# Altium integrated library Microchip Microcontroller 8-Bit PIC18.IntLib: 1070 symbols (part 6 of 43)
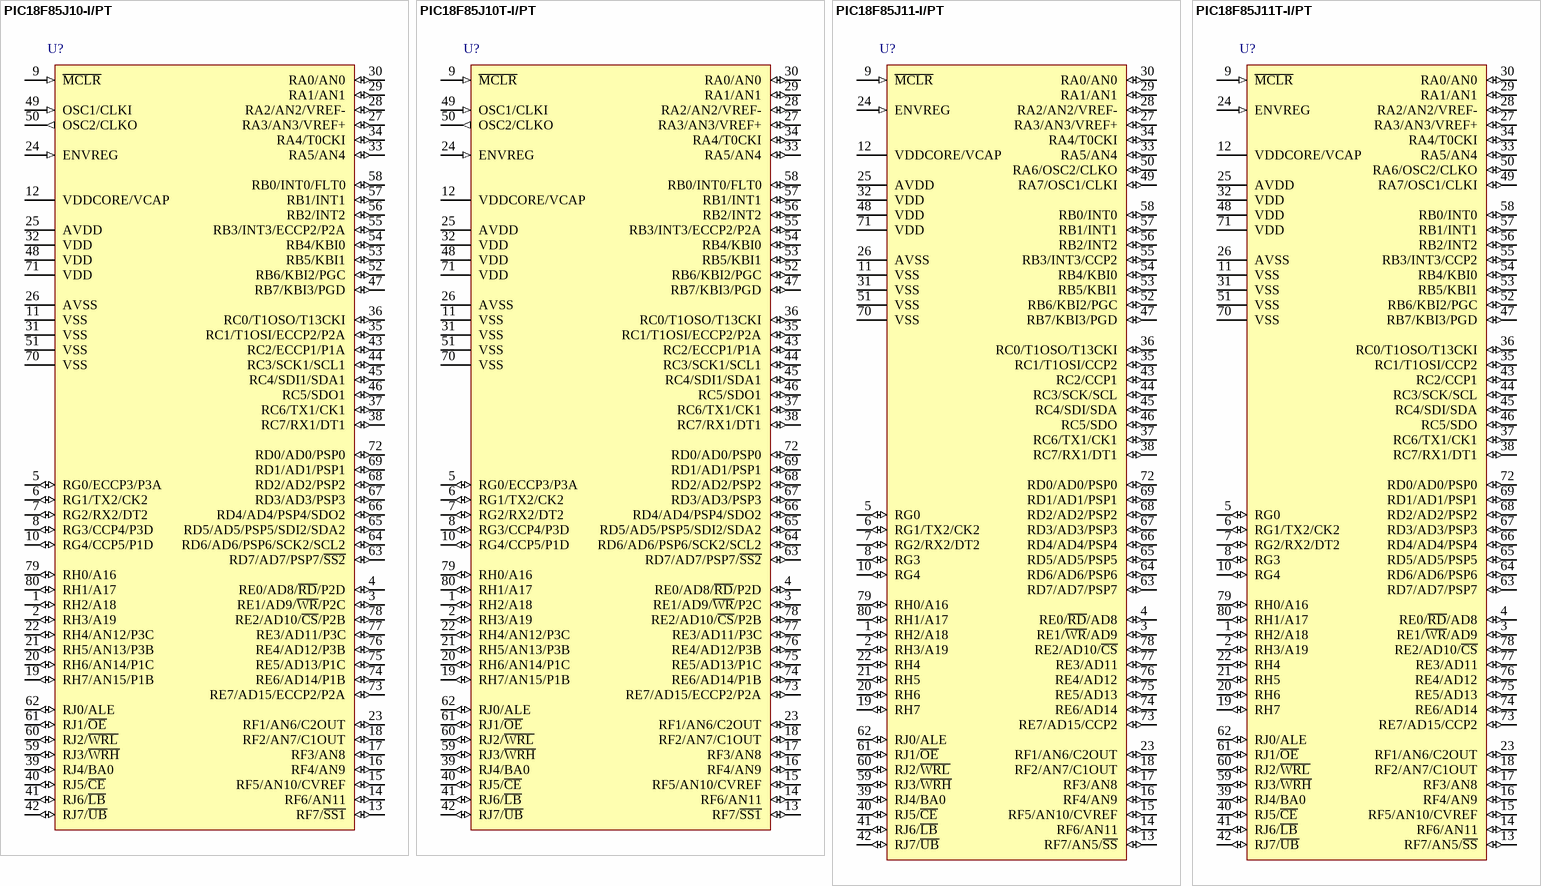
[diagram p129: symbols PIC18F85J10-I/PT to PIC18F85J11T-I/PT]

## PIC18F85J10T-I/PT
designator U?
High Performance, 1-Mbit Flash Microcontroller with nanoWatt Technology, 32K Flash, 80-Pin TQFP, Industrial Temperature Range, Tape and Reel; Published: 29-Jan-2009; DatasheetVersion: revD, Jun-2006; PackageVersion: revAW, Oct-2008; PackageReference: TQFP-PT80; Publisher: Altium Limited; PackageDescription: 80-Lead Thin Plastic Quad Flat Pack (PT) - 12x12x1mm Body, 2.00mm [TQFP]; Code_JEDEC: MS-026; ComponentLink1Description: Manufacturer Link; ComponentLink1URL: http://www.microchip.com; ComponentLink2Description: Datasheet; ComponentLink2URL: http://ww1.microchip.com/downloads/en/DeviceDoc/39663d.pdf; ComponentLink3Description: Packaging Specification; ComponentLink3URL: http://ww1.microchip.com/downloads/en/PackagingSpec/00049AW.pdf
footprint TQFP-PT80_N (Thin QFP, 80-Leads, Body 12x12mm, Pitch 0.5mm, IPC Medium Density)
footprint TQFP-PT80_L (Thin QFP, 80-Leads, Body 12x12mm, Pitch 0.5mm, IPC High Density)
footprint TQFP-PT80_M (Thin QFP, 80-Leads, Body 12x12mm, Pitch 0.5mm, IPC Low Density)
pins: 1 RH2/A18 (io), 2 RH3/A19 (io), 3 RE1/AD9/~{WR}/P2C (io), 4 RE0/AD8/~{RD}/P2D (io), 5 RG0/ECCP3/P3A (io), 6 RG1/TX2/CK2 (io), 7 RG2/RX2/DT2 (io), 8 RG3/CCP4/P3D (io), 9 ~{MCLR} (in), 10 RG4/CCP5/P1D (io), 11 VSS (power), 12 VDDCORE/VCAP (power), 13 RF7/~{SS1} (io), 14 RF6/AN11 (io), 15 RF5/AN10/CVREF (io), 16 RF4/AN9 (io), 17 RF3/AN8 (io), 18 RF2/AN7/C1OUT (io), 19 RH7/AN15/P1B (io), 20 RH6/AN14/P1C (io), 21 RH5/AN13/P3B (io), 22 RH4/AN12/P3C (io), 23 RF1/AN6/C2OUT (io), 24 ENVREG (in), 25 AVDD (power), 26 AVSS (power), 27 RA3/AN3/VREF+ (io), 28 RA2/AN2/VREF- (io), 29 RA1/AN1 (io), 30 RA0/AN0 (io), 31 VSS (power), 32 VDD (power), 33 RA5/AN4 (io), 34 RA4/T0CKI (io), 35 RC1/T1OSI/ECCP2/P2A (io), 36 RC0/T1OSO/T13CKI (io), 37 RC6/TX1/CK1 (io), 38 RC7/RX1/DT1 (io), 39 RJ4/BA0 (io), 40 RJ5/~{CE} (io), 41 RJ6/~{LB} (io), 42 RJ7/~{UB} (io), 43 RC2/ECCP1/P1A (io), 44 RC3/SCK1/SCL1 (io), 45 RC4/SDI1/SDA1 (io), 46 RC5/SDO1 (io), 47 RB7/KBI3/PGD (io), 48 VDD (power), 49 OSC1/CLKI (in), 50 OSC2/CLKO (out), 51 VSS (power), 52 RB6/KBI2/PGC (io), 53 RB5/KBI1 (io), 54 RB4/KBI0 (io), 55 RB3/INT3/ECCP2/P2A (io), 56 RB2/INT2 (io), 57 RB1/INT1 (io), 58 RB0/INT0/FLT0 (io), 59 RJ3/~{WRH} (io), 60 RJ2/~{WRL} (io), 61 RJ1/~{OE} (io), 62 RJ0/ALE (io), 63 RD7/AD7/PSP7/~{SS2} (io), 64 RD6/AD6/PSP6/SCK2/SCL2 (io), 65 RD5/AD5/PSP5/SDI2/SDA2 (io), 66 RD4/AD4/PSP4/SDO2 (io), 67 RD3/AD3/PSP3 (io), 68 RD2/AD2/PSP2 (io), 69 RD1/AD1/PSP1 (io), 70 VSS (power), 71 VDD (power), 72 RD0/AD0/PSP0 (io), 73 RE7/AD15/ECCP2/P2A (io), 74 RE6/AD14/P1B (io), 75 RE5/AD13/P1C (io), 76 RE4/AD12/P3B (io), 77 RE3/AD11/P3C (io), 78 RE2/AD10/~{CS}/P2B (io), 79 RH0/A16 (io), 80 RH1/A17 (io)

## PIC18F85J11-I/PT
designator U?
High Performance Microcontroller with nanoWatt Technology, 32K Flash, 80-Pin TQFP, Industrial Temperature Range; Published: 29-Jan-2009; DatasheetVersion: revC, Apr-2007; PackageVersion: revAW, Oct-2008; PackageReference: TQFP-PT80; Publisher: Altium Limited; PackageDescription: 80-Lead Thin Plastic Quad Flat Pack (PT) - 12x12x1mm Body, 2.00mm [TQFP]; Code_JEDEC: MS-026; ComponentLink1Description: Manufacturer Link; ComponentLink1URL: http://www.microchip.com; ComponentLink2Description: Datasheet; ComponentLink2URL: http://ww1.microchip.com/downloads/en/DeviceDoc/39774c.pdf; ComponentLink3Description: Packaging Specification; ComponentLink3URL: http://ww1.microchip.com/downloads/en/PackagingSpec/00049AW.pdf
footprint TQFP-PT80_N (Thin QFP, 80-Leads, Body 12x12mm, Pitch 0.5mm, IPC Medium Density)
footprint TQFP-PT80_L (Thin QFP, 80-Leads, Body 12x12mm, Pitch 0.5mm, IPC High Density)
footprint TQFP-PT80_M (Thin QFP, 80-Leads, Body 12x12mm, Pitch 0.5mm, IPC Low Density)
pins: 1 RH2/A18 (io), 2 RH3/A19 (io), 3 RE1/~{WR}/AD9 (io), 4 RE0/~{RD}/AD8 (io), 5 RG0 (io), 6 RG1/TX2/CK2 (io), 7 RG2/RX2/DT2 (io), 8 RG3 (io), 9 ~{MCLR} (in), 10 RG4 (io), 11 VSS (power), 12 VDDCORE/VCAP (power), 13 RF7/AN5/~{SS} (io), 14 RF6/AN11 (io), 15 RF5/AN10/CVREF (io), 16 RF4/AN9 (io), 17 RF3/AN8 (io), 18 RF2/AN7/C1OUT (io), 19 RH7 (io), 20 RH6 (io), 21 RH5 (io), 22 RH4 (io), 23 RF1/AN6/C2OUT (io), 24 ENVREG (in), 25 AVDD (power), 26 AVSS (power), 27 RA3/AN3/VREF+ (io), 28 RA2/AN2/VREF- (io), 29 RA1/AN1 (io), 30 RA0/AN0 (io), 31 VSS (power), 32 VDD (power), 33 RA5/AN4 (io), 34 RA4/T0CKI (io), 35 RC1/T1OSI/CCP2 (io), 36 RC0/T1OSO/T13CKI (io), 37 RC6/TX1/CK1 (io), 38 RC7/RX1/DT1 (io), 39 RJ4/BA0 (io), 40 RJ5/~{CE} (io), 41 RJ6/~{LB} (io), 42 RJ7/~{UB} (io), 43 RC2/CCP1 (io), 44 RC3/SCK/SCL (io), 45 RC4/SDI/SDA (io), 46 RC5/SDO (io), 47 RB7/KBI3/PGD (io), 48 VDD (power), 49 RA7/OSC1/CLKI (io), 50 RA6/OSC2/CLKO (io), 51 VSS (power), 52 RB6/KBI2/PGC (io), 53 RB5/KBI1 (io), 54 RB4/KBI0 (io), 55 RB3/INT3/CCP2 (io), 56 RB2/INT2 (io), 57 RB1/INT1 (io), 58 RB0/INT0 (io), 59 RJ3/~{WRH} (io), 60 RJ2/~{WRL} (io), 61 RJ1/~{OE} (io), 62 RJ0/ALE (io), 63 RD7/AD7/PSP7 (io), 64 RD6/AD6/PSP6 (io), 65 RD5/AD5/PSP5 (io), 66 RD4/AD4/PSP4 (io), 67 RD3/AD3/PSP3 (io), 68 RD2/AD2/PSP2 (io), 69 RD1/AD1/PSP1 (io), 70 VSS (power), 71 VDD (power), 72 RD0/AD0/PSP0 (io), 73 RE7/AD15/CCP2 (io), 74 RE6/AD14 (io), 75 RE5/AD13 (io), 76 RE4/AD12 (io), 77 RE3/AD11 (io), 78 RE2/AD10/~{CS} (io), 79 RH0/A16 (io), 80 RH1/A17 (io)

## PIC18F85J11T-I/PT
designator U?
High Performance Microcontroller with nanoWatt Technology, 32K Flash, 80-Pin TQFP, Industrial Temperature Range, Tape and Reel; Published: 29-Jan-2009; DatasheetVersion: revC, Apr-2007; PackageVersion: revAW, Oct-2008; PackageReference: TQFP-PT80; Publisher: Altium Limited; PackageDescription: 80-Lead Thin Plastic Quad Flat Pack (PT) - 12x12x1mm Body, 2.00mm [TQFP]; Code_JEDEC: MS-026; ComponentLink1Description: Manufacturer Link; ComponentLink1URL: http://www.microchip.com; ComponentLink2Description: Datasheet; ComponentLink2URL: http://ww1.microchip.com/downloads/en/DeviceDoc/39774c.pdf; ComponentLink3Description: Packaging Specification; ComponentLink3URL: http://ww1.microchip.com/downloads/en/PackagingSpec/00049AW.pdf
footprint TQFP-PT80_N (Thin QFP, 80-Leads, Body 12x12mm, Pitch 0.5mm, IPC Medium Density)
footprint TQFP-PT80_L (Thin QFP, 80-Leads, Body 12x12mm, Pitch 0.5mm, IPC High Density)
footprint TQFP-PT80_M (Thin QFP, 80-Leads, Body 12x12mm, Pitch 0.5mm, IPC Low Density)
pins: 1 RH2/A18 (io), 2 RH3/A19 (io), 3 RE1/~{WR}/AD9 (io), 4 RE0/~{RD}/AD8 (io), 5 RG0 (io), 6 RG1/TX2/CK2 (io), 7 RG2/RX2/DT2 (io), 8 RG3 (io), 9 ~{MCLR} (in), 10 RG4 (io), 11 VSS (power), 12 VDDCORE/VCAP (power), 13 RF7/AN5/~{SS} (io), 14 RF6/AN11 (io), 15 RF5/AN10/CVREF (io), 16 RF4/AN9 (io), 17 RF3/AN8 (io), 18 RF2/AN7/C1OUT (io), 19 RH7 (io), 20 RH6 (io), 21 RH5 (io), 22 RH4 (io), 23 RF1/AN6/C2OUT (io), 24 ENVREG (in), 25 AVDD (power), 26 AVSS (power), 27 RA3/AN3/VREF+ (io), 28 RA2/AN2/VREF- (io), 29 RA1/AN1 (io), 30 RA0/AN0 (io), 31 VSS (power), 32 VDD (power), 33 RA5/AN4 (io), 34 RA4/T0CKI (io), 35 RC1/T1OSI/CCP2 (io), 36 RC0/T1OSO/T13CKI (io), 37 RC6/TX1/CK1 (io), 38 RC7/RX1/DT1 (io), 39 RJ4/BA0 (io), 40 RJ5/~{CE} (io), 41 RJ6/~{LB} (io), 42 RJ7/~{UB} (io), 43 RC2/CCP1 (io), 44 RC3/SCK/SCL (io), 45 RC4/SDI/SDA (io), 46 RC5/SDO (io), 47 RB7/KBI3/PGD (io), 48 VDD (power), 49 RA7/OSC1/CLKI (io), 50 RA6/OSC2/CLKO (io), 51 VSS (power), 52 RB6/KBI2/PGC (io), 53 RB5/KBI1 (io), 54 RB4/KBI0 (io), 55 RB3/INT3/CCP2 (io), 56 RB2/INT2 (io), 57 RB1/INT1 (io), 58 RB0/INT0 (io), 59 RJ3/~{WRH} (io), 60 RJ2/~{WRL} (io), 61 RJ1/~{OE} (io), 62 RJ0/ALE (io), 63 RD7/AD7/PSP7 (io), 64 RD6/AD6/PSP6 (io), 65 RD5/AD5/PSP5 (io), 66 RD4/AD4/PSP4 (io), 67 RD3/AD3/PSP3 (io), 68 RD2/AD2/PSP2 (io), 69 RD1/AD1/PSP1 (io), 70 VSS (power), 71 VDD (power), 72 RD0/AD0/PSP0 (io), 73 RE7/AD15/CCP2 (io), 74 RE6/AD14 (io), 75 RE5/AD13 (io), 76 RE4/AD12 (io), 77 RE3/AD11 (io), 78 RE2/AD10/~{CS} (io), 79 RH0/A16 (io), 80 RH1/A17 (io)

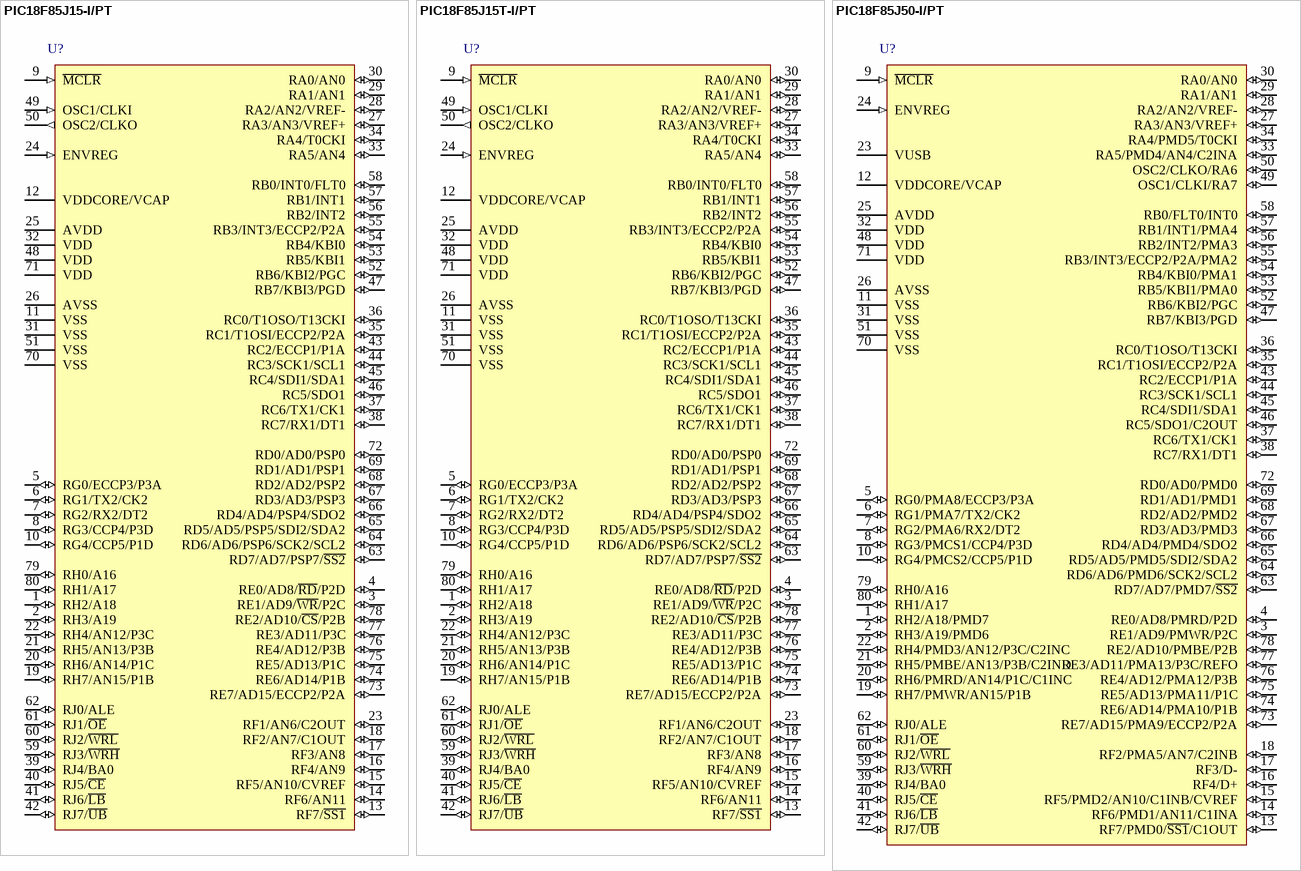
[diagram p16: symbols PIC18F85J15-I/PT to PIC18F85J50-I/PT]

## PIC18F85J15-I/PT
designator U?
High Performance, 1-Mbit Flash Microcontroller with nanoWatt Technology, 48K Flash, 80-Pin TQFP, Industrial Temperature Range; Published: 29-Jan-2009; DatasheetVersion: revD, Jun-2006; PackageVersion: revAW, Oct-2008; PackageReference: TQFP-PT80; Publisher: Altium Limited; PackageDescription: 80-Lead Thin Plastic Quad Flat Pack (PT) - 12x12x1mm Body, 2.00mm [TQFP]; Code_JEDEC: MS-026; ComponentLink1Description: Manufacturer Link; ComponentLink1URL: http://www.microchip.com; ComponentLink2Description: Datasheet; ComponentLink2URL: http://ww1.microchip.com/downloads/en/DeviceDoc/39663d.pdf; ComponentLink3Description: Packaging Specification; ComponentLink3URL: http://ww1.microchip.com/downloads/en/PackagingSpec/00049AW.pdf
footprint TQFP-PT80_N (Thin QFP, 80-Leads, Body 12x12mm, Pitch 0.5mm, IPC Medium Density)
footprint TQFP-PT80_L (Thin QFP, 80-Leads, Body 12x12mm, Pitch 0.5mm, IPC High Density)
footprint TQFP-PT80_M (Thin QFP, 80-Leads, Body 12x12mm, Pitch 0.5mm, IPC Low Density)
pins: 1 RH2/A18 (io), 2 RH3/A19 (io), 3 RE1/AD9/~{WR}/P2C (io), 4 RE0/AD8/~{RD}/P2D (io), 5 RG0/ECCP3/P3A (io), 6 RG1/TX2/CK2 (io), 7 RG2/RX2/DT2 (io), 8 RG3/CCP4/P3D (io), 9 ~{MCLR} (in), 10 RG4/CCP5/P1D (io), 11 VSS (power), 12 VDDCORE/VCAP (power), 13 RF7/~{SS1} (io), 14 RF6/AN11 (io), 15 RF5/AN10/CVREF (io), 16 RF4/AN9 (io), 17 RF3/AN8 (io), 18 RF2/AN7/C1OUT (io), 19 RH7/AN15/P1B (io), 20 RH6/AN14/P1C (io), 21 RH5/AN13/P3B (io), 22 RH4/AN12/P3C (io), 23 RF1/AN6/C2OUT (io), 24 ENVREG (in), 25 AVDD (power), 26 AVSS (power), 27 RA3/AN3/VREF+ (io), 28 RA2/AN2/VREF- (io), 29 RA1/AN1 (io), 30 RA0/AN0 (io), 31 VSS (power), 32 VDD (power), 33 RA5/AN4 (io), 34 RA4/T0CKI (io), 35 RC1/T1OSI/ECCP2/P2A (io), 36 RC0/T1OSO/T13CKI (io), 37 RC6/TX1/CK1 (io), 38 RC7/RX1/DT1 (io), 39 RJ4/BA0 (io), 40 RJ5/~{CE} (io), 41 RJ6/~{LB} (io), 42 RJ7/~{UB} (io), 43 RC2/ECCP1/P1A (io), 44 RC3/SCK1/SCL1 (io), 45 RC4/SDI1/SDA1 (io), 46 RC5/SDO1 (io), 47 RB7/KBI3/PGD (io), 48 VDD (power), 49 OSC1/CLKI (in), 50 OSC2/CLKO (out), 51 VSS (power), 52 RB6/KBI2/PGC (io), 53 RB5/KBI1 (io), 54 RB4/KBI0 (io), 55 RB3/INT3/ECCP2/P2A (io), 56 RB2/INT2 (io), 57 RB1/INT1 (io), 58 RB0/INT0/FLT0 (io), 59 RJ3/~{WRH} (io), 60 RJ2/~{WRL} (io), 61 RJ1/~{OE} (io), 62 RJ0/ALE (io), 63 RD7/AD7/PSP7/~{SS2} (io), 64 RD6/AD6/PSP6/SCK2/SCL2 (io), 65 RD5/AD5/PSP5/SDI2/SDA2 (io), 66 RD4/AD4/PSP4/SDO2 (io), 67 RD3/AD3/PSP3 (io), 68 RD2/AD2/PSP2 (io), 69 RD1/AD1/PSP1 (io), 70 VSS (power), 71 VDD (power), 72 RD0/AD0/PSP0 (io), 73 RE7/AD15/ECCP2/P2A (io), 74 RE6/AD14/P1B (io), 75 RE5/AD13/P1C (io), 76 RE4/AD12/P3B (io), 77 RE3/AD11/P3C (io), 78 RE2/AD10/~{CS}/P2B (io), 79 RH0/A16 (io), 80 RH1/A17 (io)

## PIC18F85J15T-I/PT
designator U?
High Performance, 1-Mbit Flash Microcontroller with nanoWatt Technology, 48K Flash, 80-Pin TQFP, Industrial Temperature Range, Tape and Reel; Published: 29-Jan-2009; DatasheetVersion: revD, Jun-2006; PackageVersion: revAW, Oct-2008; PackageReference: TQFP-PT80; Publisher: Altium Limited; PackageDescription: 80-Lead Thin Plastic Quad Flat Pack (PT) - 12x12x1mm Body, 2.00mm [TQFP]; Code_JEDEC: MS-026; ComponentLink1Description: Manufacturer Link; ComponentLink1URL: http://www.microchip.com; ComponentLink2Description: Datasheet; ComponentLink2URL: http://ww1.microchip.com/downloads/en/DeviceDoc/39663d.pdf; ComponentLink3Description: Packaging Specification; ComponentLink3URL: http://ww1.microchip.com/downloads/en/PackagingSpec/00049AW.pdf
footprint TQFP-PT80_N (Thin QFP, 80-Leads, Body 12x12mm, Pitch 0.5mm, IPC Medium Density)
footprint TQFP-PT80_L (Thin QFP, 80-Leads, Body 12x12mm, Pitch 0.5mm, IPC High Density)
footprint TQFP-PT80_M (Thin QFP, 80-Leads, Body 12x12mm, Pitch 0.5mm, IPC Low Density)
pins: 1 RH2/A18 (io), 2 RH3/A19 (io), 3 RE1/AD9/~{WR}/P2C (io), 4 RE0/AD8/~{RD}/P2D (io), 5 RG0/ECCP3/P3A (io), 6 RG1/TX2/CK2 (io), 7 RG2/RX2/DT2 (io), 8 RG3/CCP4/P3D (io), 9 ~{MCLR} (in), 10 RG4/CCP5/P1D (io), 11 VSS (power), 12 VDDCORE/VCAP (power), 13 RF7/~{SS1} (io), 14 RF6/AN11 (io), 15 RF5/AN10/CVREF (io), 16 RF4/AN9 (io), 17 RF3/AN8 (io), 18 RF2/AN7/C1OUT (io), 19 RH7/AN15/P1B (io), 20 RH6/AN14/P1C (io), 21 RH5/AN13/P3B (io), 22 RH4/AN12/P3C (io), 23 RF1/AN6/C2OUT (io), 24 ENVREG (in), 25 AVDD (power), 26 AVSS (power), 27 RA3/AN3/VREF+ (io), 28 RA2/AN2/VREF- (io), 29 RA1/AN1 (io), 30 RA0/AN0 (io), 31 VSS (power), 32 VDD (power), 33 RA5/AN4 (io), 34 RA4/T0CKI (io), 35 RC1/T1OSI/ECCP2/P2A (io), 36 RC0/T1OSO/T13CKI (io), 37 RC6/TX1/CK1 (io), 38 RC7/RX1/DT1 (io), 39 RJ4/BA0 (io), 40 RJ5/~{CE} (io), 41 RJ6/~{LB} (io), 42 RJ7/~{UB} (io), 43 RC2/ECCP1/P1A (io), 44 RC3/SCK1/SCL1 (io), 45 RC4/SDI1/SDA1 (io), 46 RC5/SDO1 (io), 47 RB7/KBI3/PGD (io), 48 VDD (power), 49 OSC1/CLKI (in), 50 OSC2/CLKO (out), 51 VSS (power), 52 RB6/KBI2/PGC (io), 53 RB5/KBI1 (io), 54 RB4/KBI0 (io), 55 RB3/INT3/ECCP2/P2A (io), 56 RB2/INT2 (io), 57 RB1/INT1 (io), 58 RB0/INT0/FLT0 (io), 59 RJ3/~{WRH} (io), 60 RJ2/~{WRL} (io), 61 RJ1/~{OE} (io), 62 RJ0/ALE (io), 63 RD7/AD7/PSP7/~{SS2} (io), 64 RD6/AD6/PSP6/SCK2/SCL2 (io), 65 RD5/AD5/PSP5/SDI2/SDA2 (io), 66 RD4/AD4/PSP4/SDO2 (io), 67 RD3/AD3/PSP3 (io), 68 RD2/AD2/PSP2 (io), 69 RD1/AD1/PSP1 (io), 70 VSS (power), 71 VDD (power), 72 RD0/AD0/PSP0 (io), 73 RE7/AD15/ECCP2/P2A (io), 74 RE6/AD14/P1B (io), 75 RE5/AD13/P1C (io), 76 RE4/AD12/P3B (io), 77 RE3/AD11/P3C (io), 78 RE2/AD10/~{CS}/P2B (io), 79 RH0/A16 (io), 80 RH1/A17 (io)

## PIC18F85J50-I/PT
designator U?
High Performance, 1-Mbit Flash USB Microcontroller with nanoWatt Technology, 32K Flash, 80-Pin TQFP, Industrial Temperature Range; Published: 29-Jan-2009; DatasheetVersion: revB, May-2007; PackageVersion: revAW, Oct-2008; PackageReference: TQFP-PT80; Publisher: Altium Limited; PackageDescription: 80-Lead Thin Plastic Quad Flat Pack (PT) - 12x12x1mm Body, 2.00mm [TQFP]; Code_JEDEC: MS-026; ComponentLink1Description: Manufacturer Link; ComponentLink1URL: http://www.microchip.com; ComponentLink2Description: Datasheet; ComponentLink2URL: http://ww1.microchip.com/downloads/en/DeviceDoc/39775b.pdf; ComponentLink3Description: Packaging Specification; ComponentLink3URL: http://ww1.microchip.com/downloads/en/PackagingSpec/00049AW.pdf
footprint TQFP-PT80_N (Thin QFP, 80-Leads, Body 12x12mm, Pitch 0.5mm, IPC Medium Density)
footprint TQFP-PT80_L (Thin QFP, 80-Leads, Body 12x12mm, Pitch 0.5mm, IPC High Density)
footprint TQFP-PT80_M (Thin QFP, 80-Leads, Body 12x12mm, Pitch 0.5mm, IPC Low Density)
pins: 1 RH2/A18/PMD7 (io), 2 RH3/A19/PMD6 (io), 3 RE1/AD9/PMWR/P2C (io), 4 RE0/AD8/PMRD/P2D (io), 5 RG0/PMA8/ECCP3/P3A (io), 6 RG1/PMA7/TX2/CK2 (io), 7 RG2/PMA6/RX2/DT2 (io), 8 RG3/PMCS1/CCP4/P3D (io), 9 ~{MCLR} (in), 10 RG4/PMCS2/CCP5/P1D (io), 11 VSS (power), 12 VDDCORE/VCAP (power), 13 RF7/PMD0/~{SS1}/C1OUT (io), 14 RF6/PMD1/AN11/C1INA (io), 15 RF5/PMD2/AN10/C1INB/CVREF (io), 16 RF4/D+ (io), 17 RF3/D- (io), 18 RF2/PMA5/AN7/C2INB (io), 19 RH7/PMWR/AN15/P1B (io), 20 RH6/PMRD/AN14/P1C/C1INC (io), 21 RH5/PMBE/AN13/P3B/C2IND (io), 22 RH4/PMD3/AN12/P3C/C2INC (io), 23 VUSB (power), 24 ENVREG (in), 25 AVDD (power), 26 AVSS (power), 27 RA3/AN3/VREF+ (io), 28 RA2/AN2/VREF- (io), 29 RA1/AN1 (io), 30 RA0/AN0 (io), 31 VSS (power), 32 VDD (power), 33 RA5/PMD4/AN4/C2INA (io), 34 RA4/PMD5/T0CKI (io), 35 RC1/T1OSI/ECCP2/P2A (io), 36 RC0/T1OSO/T13CKI (io), 37 RC6/TX1/CK1 (io), 38 RC7/RX1/DT1 (io), 39 RJ4/BA0 (io), 40 RJ5/~{CE} (io), 41 RJ6/~{LB} (io), 42 RJ7/~{UB} (io), 43 RC2/ECCP1/P1A (io), 44 RC3/SCK1/SCL1 (io), 45 RC4/SDI1/SDA1 (io), 46 RC5/SDO1/C2OUT (io), 47 RB7/KBI3/PGD (io), 48 VDD (power), 49 OSC1/CLKI/RA7 (io), 50 OSC2/CLKO/RA6 (io), 51 VSS (power), 52 RB6/KBI2/PGC (io), 53 RB5/KBI1/PMA0 (io), 54 RB4/KBI0/PMA1 (io), 55 RB3/INT3/ECCP2/P2A/PMA2 (io), 56 RB2/INT2/PMA3 (io), 57 RB1/INT1/PMA4 (io), 58 RB0/FLT0/INT0 (io), 59 RJ3/~{WRH} (io), 60 RJ2/~{WRL} (io), 61 RJ1/~{OE} (io), 62 RJ0/ALE (io), 63 RD7/AD7/PMD7/~{SS2} (io), 64 RD6/AD6/PMD6/SCK2/SCL2 (io), 65 RD5/AD5/PMD5/SDI2/SDA2 (io), 66 RD4/AD4/PMD4/SDO2 (io), 67 RD3/AD3/PMD3 (io), 68 RD2/AD2/PMD2 (io), 69 RD1/AD1/PMD1 (io), 70 VSS (power), 71 VDD (power), 72 RD0/AD0/PMD0 (io), 73 RE7/AD15/PMA9/ECCP2/P2A (io), 74 RE6/AD14/PMA10/P1B (io), 75 RE5/AD13/PMA11/P1C (io), 76 RE4/AD12/PMA12/P3B (io), 77 RE3/AD11/PMA13/P3C/REFO (io), 78 RE2/AD10/PMBE/P2B (io), 79 RH0/A16 (io), 80 RH1/A17 (io)

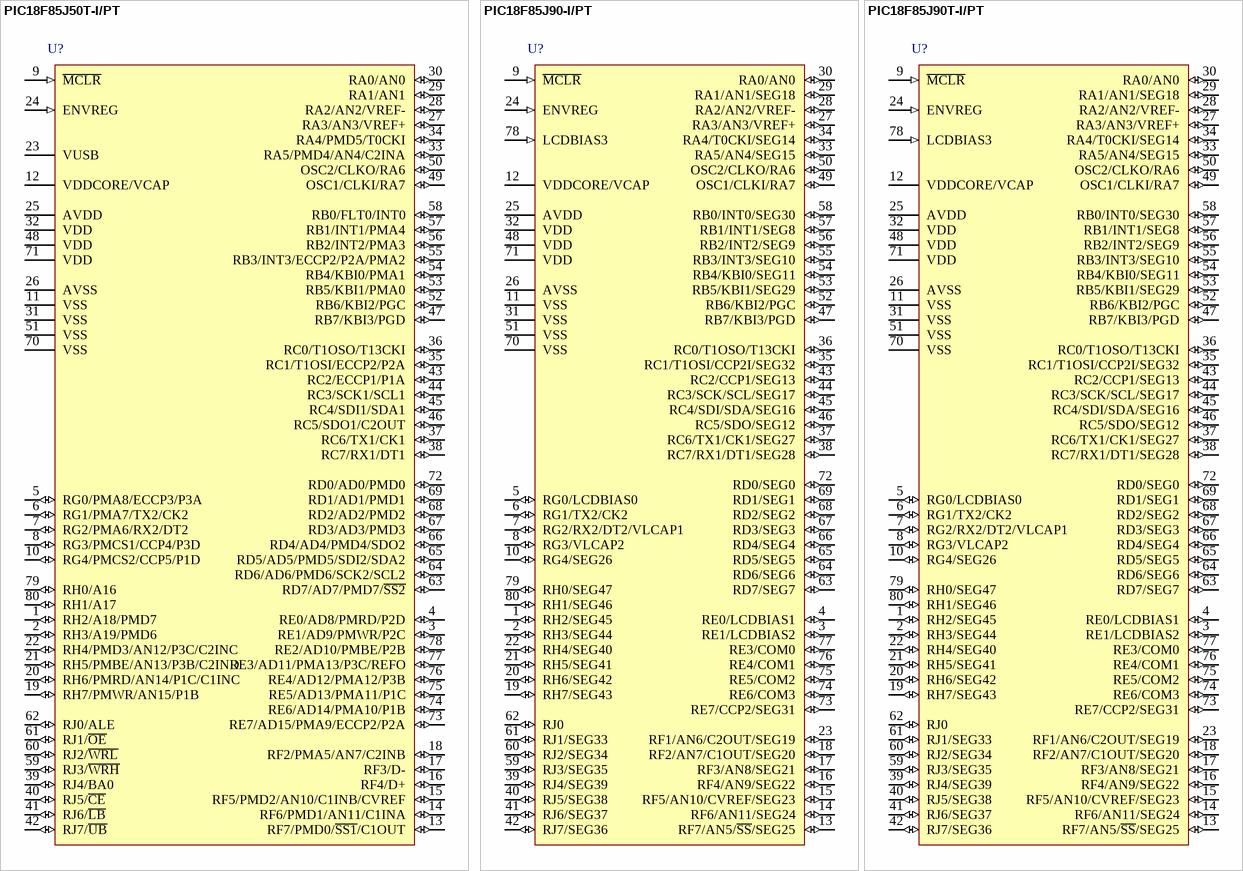
[diagram p17: symbols PIC18F85J50T-I/PT to PIC18F85J90T-I/PT]

## PIC18F85J50T-I/PT
designator U?
High Performance, 1-Mbit Flash USB Microcontroller with nanoWatt Technology, 32K Flash, 80-Pin TQFP, Industrial Temperature Range, Tape and Reel; Published: 29-Jan-2009; DatasheetVersion: revB, May-2007; PackageVersion: revAW, Oct-2008; PackageReference: TQFP-PT80; Publisher: Altium Limited; PackageDescription: 80-Lead Thin Plastic Quad Flat Pack (PT) - 12x12x1mm Body, 2.00mm [TQFP]; Code_JEDEC: MS-026; ComponentLink1Description: Manufacturer Link; ComponentLink1URL: http://www.microchip.com; ComponentLink2Description: Datasheet; ComponentLink2URL: http://ww1.microchip.com/downloads/en/DeviceDoc/39775b.pdf; ComponentLink3Description: Packaging Specification; ComponentLink3URL: http://ww1.microchip.com/downloads/en/PackagingSpec/00049AW.pdf
footprint TQFP-PT80_N (Thin QFP, 80-Leads, Body 12x12mm, Pitch 0.5mm, IPC Medium Density)
footprint TQFP-PT80_L (Thin QFP, 80-Leads, Body 12x12mm, Pitch 0.5mm, IPC High Density)
footprint TQFP-PT80_M (Thin QFP, 80-Leads, Body 12x12mm, Pitch 0.5mm, IPC Low Density)
pins: 1 RH2/A18/PMD7 (io), 2 RH3/A19/PMD6 (io), 3 RE1/AD9/PMWR/P2C (io), 4 RE0/AD8/PMRD/P2D (io), 5 RG0/PMA8/ECCP3/P3A (io), 6 RG1/PMA7/TX2/CK2 (io), 7 RG2/PMA6/RX2/DT2 (io), 8 RG3/PMCS1/CCP4/P3D (io), 9 ~{MCLR} (in), 10 RG4/PMCS2/CCP5/P1D (io), 11 VSS (power), 12 VDDCORE/VCAP (power), 13 RF7/PMD0/~{SS1}/C1OUT (io), 14 RF6/PMD1/AN11/C1INA (io), 15 RF5/PMD2/AN10/C1INB/CVREF (io), 16 RF4/D+ (io), 17 RF3/D- (io), 18 RF2/PMA5/AN7/C2INB (io), 19 RH7/PMWR/AN15/P1B (io), 20 RH6/PMRD/AN14/P1C/C1INC (io), 21 RH5/PMBE/AN13/P3B/C2IND (io), 22 RH4/PMD3/AN12/P3C/C2INC (io), 23 VUSB (power), 24 ENVREG (in), 25 AVDD (power), 26 AVSS (power), 27 RA3/AN3/VREF+ (io), 28 RA2/AN2/VREF- (io), 29 RA1/AN1 (io), 30 RA0/AN0 (io), 31 VSS (power), 32 VDD (power), 33 RA5/PMD4/AN4/C2INA (io), 34 RA4/PMD5/T0CKI (io), 35 RC1/T1OSI/ECCP2/P2A (io), 36 RC0/T1OSO/T13CKI (io), 37 RC6/TX1/CK1 (io), 38 RC7/RX1/DT1 (io), 39 RJ4/BA0 (io), 40 RJ5/~{CE} (io), 41 RJ6/~{LB} (io), 42 RJ7/~{UB} (io), 43 RC2/ECCP1/P1A (io), 44 RC3/SCK1/SCL1 (io), 45 RC4/SDI1/SDA1 (io), 46 RC5/SDO1/C2OUT (io), 47 RB7/KBI3/PGD (io), 48 VDD (power), 49 OSC1/CLKI/RA7 (io), 50 OSC2/CLKO/RA6 (io), 51 VSS (power), 52 RB6/KBI2/PGC (io), 53 RB5/KBI1/PMA0 (io), 54 RB4/KBI0/PMA1 (io), 55 RB3/INT3/ECCP2/P2A/PMA2 (io), 56 RB2/INT2/PMA3 (io), 57 RB1/INT1/PMA4 (io), 58 RB0/FLT0/INT0 (io), 59 RJ3/~{WRH} (io), 60 RJ2/~{WRL} (io), 61 RJ1/~{OE} (io), 62 RJ0/ALE (io), 63 RD7/AD7/PMD7/~{SS2} (io), 64 RD6/AD6/PMD6/SCK2/SCL2 (io), 65 RD5/AD5/PMD5/SDI2/SDA2 (io), 66 RD4/AD4/PMD4/SDO2 (io), 67 RD3/AD3/PMD3 (io), 68 RD2/AD2/PMD2 (io), 69 RD1/AD1/PMD1 (io), 70 VSS (power), 71 VDD (power), 72 RD0/AD0/PMD0 (io), 73 RE7/AD15/PMA9/ECCP2/P2A (io), 74 RE6/AD14/PMA10/P1B (io), 75 RE5/AD13/PMA11/P1C (io), 76 RE4/AD12/PMA12/P3B (io), 77 RE3/AD11/PMA13/P3C/REFO (io), 78 RE2/AD10/PMBE/P2B (io), 79 RH0/A16 (io), 80 RH1/A17 (io)

## PIC18F85J90-I/PT
designator U?
High Performance Microcontroller with LCD Driver and nanoWatt Technology, 32K Flash, 80-Pin TQFP, Industrial Temperature Range; Published: 29-Jan-2009; DatasheetVersion: revB, Mar-2007; PackageVersion: revAW, Oct-2008; PackageReference: TQFP-PT80; Publisher: Altium Limited; PackageDescription: 80-Lead Thin Plastic Quad Flat Pack (PT) - 12x12x1mm Body, 2.00mm [TQFP]; Code_JEDEC: MS-026; ComponentLink1Description: Manufacturer Link; ComponentLink1URL: http://www.microchip.com; ComponentLink2Description: Datasheet; ComponentLink2URL: http://ww1.microchip.com/downloads/en/DeviceDoc/39770b.pdf; ComponentLink3Description: Packaging Specification; ComponentLink3URL: http://ww1.microchip.com/downloads/en/PackagingSpec/00049AW.pdf
footprint TQFP-PT80_N (Thin QFP, 80-Leads, Body 12x12mm, Pitch 0.5mm, IPC Medium Density)
footprint TQFP-PT80_L (Thin QFP, 80-Leads, Body 12x12mm, Pitch 0.5mm, IPC High Density)
footprint TQFP-PT80_M (Thin QFP, 80-Leads, Body 12x12mm, Pitch 0.5mm, IPC Low Density)
pins: 1 RH2/SEG45 (io), 2 RH3/SEG44 (io), 3 RE1/LCDBIAS2 (io), 4 RE0/LCDBIAS1 (io), 5 RG0/LCDBIAS0 (io), 6 RG1/TX2/CK2 (io), 7 RG2/RX2/DT2/VLCAP1 (io), 8 RG3/VLCAP2 (io), 9 ~{MCLR} (in), 10 RG4/SEG26 (io), 11 VSS (power), 12 VDDCORE/VCAP (power), 13 RF7/AN5/~{SS}/SEG25 (io), 14 RF6/AN11/SEG24 (io), 15 RF5/AN10/CVREF/SEG23 (io), 16 RF4/AN9/SEG22 (io), 17 RF3/AN8/SEG21 (io), 18 RF2/AN7/C1OUT/SEG20 (io), 19 RH7/SEG43 (io), 20 RH6/SEG42 (io), 21 RH5/SEG41 (io), 22 RH4/SEG40 (io), 23 RF1/AN6/C2OUT/SEG19 (io), 24 ENVREG (in), 25 AVDD (power), 26 AVSS (power), 27 RA3/AN3/VREF+ (io), 28 RA2/AN2/VREF- (io), 29 RA1/AN1/SEG18 (io), 30 RA0/AN0 (io), 31 VSS (power), 32 VDD (power), 33 RA5/AN4/SEG15 (io), 34 RA4/T0CKI/SEG14 (io), 35 RC1/T1OSI/CCP2I/SEG32 (io), 36 RC0/T1OSO/T13CKI (io), 37 RC6/TX1/CK1/SEG27 (io), 38 RC7/RX1/DT1/SEG28 (io), 39 RJ4/SEG39 (io), 40 RJ5/SEG38 (io), 41 RJ6/SEG37 (io), 42 RJ7/SEG36 (io), 43 RC2/CCP1/SEG13 (io), 44 RC3/SCK/SCL/SEG17 (io), 45 RC4/SDI/SDA/SEG16 (io), 46 RC5/SDO/SEG12 (io), 47 RB7/KBI3/PGD (io), 48 VDD (power), 49 OSC1/CLKI/RA7 (io), 50 OSC2/CLKO/RA6 (io), 51 VSS (power), 52 RB6/KBI2/PGC (io), 53 RB5/KBI1/SEG29 (io), 54 RB4/KBI0/SEG11 (io), 55 RB3/INT3/SEG10 (io), 56 RB2/INT2/SEG9 (io), 57 RB1/INT1/SEG8 (io), 58 RB0/INT0/SEG30 (io), 59 RJ3/SEG35 (io), 60 RJ2/SEG34 (io), 61 RJ1/SEG33 (io), 62 RJ0 (io), 63 RD7/SEG7 (io), 64 RD6/SEG6 (io), 65 RD5/SEG5 (io), 66 RD4/SEG4 (io), 67 RD3/SEG3 (io), 68 RD2/SEG2 (io), 69 RD1/SEG1 (io), 70 VSS (power), 71 VDD (power), 72 RD0/SEG0 (io), 73 RE7/CCP2/SEG31 (io), 74 RE6/COM3 (io), 75 RE5/COM2 (io), 76 RE4/COM1 (io), 77 RE3/COM0 (io), 78 LCDBIAS3 (in), 79 RH0/SEG47 (io), 80 RH1/SEG46 (io)

## PIC18F85J90T-I/PT
designator U?
High Performance Microcontroller with LCD Driver and nanoWatt Technology, 32K Flash, 80-Pin TQFP, Industrial Temperature Range, Tape and Reel; Published: 29-Jan-2009; DatasheetVersion: revB, Mar-2007; PackageVersion: revAW, Oct-2008; PackageReference: TQFP-PT80; Publisher: Altium Limited; PackageDescription: 80-Lead Thin Plastic Quad Flat Pack (PT) - 12x12x1mm Body, 2.00mm [TQFP]; Code_JEDEC: MS-026; ComponentLink1Description: Manufacturer Link; ComponentLink1URL: http://www.microchip.com; ComponentLink2Description: Datasheet; ComponentLink2URL: http://ww1.microchip.com/downloads/en/DeviceDoc/39770b.pdf; ComponentLink3Description: Packaging Specification; ComponentLink3URL: http://ww1.microchip.com/downloads/en/PackagingSpec/00049AW.pdf
footprint TQFP-PT80_N (Thin QFP, 80-Leads, Body 12x12mm, Pitch 0.5mm, IPC Medium Density)
footprint TQFP-PT80_L (Thin QFP, 80-Leads, Body 12x12mm, Pitch 0.5mm, IPC High Density)
footprint TQFP-PT80_M (Thin QFP, 80-Leads, Body 12x12mm, Pitch 0.5mm, IPC Low Density)
pins: 1 RH2/SEG45 (io), 2 RH3/SEG44 (io), 3 RE1/LCDBIAS2 (io), 4 RE0/LCDBIAS1 (io), 5 RG0/LCDBIAS0 (io), 6 RG1/TX2/CK2 (io), 7 RG2/RX2/DT2/VLCAP1 (io), 8 RG3/VLCAP2 (io), 9 ~{MCLR} (in), 10 RG4/SEG26 (io), 11 VSS (power), 12 VDDCORE/VCAP (power), 13 RF7/AN5/~{SS}/SEG25 (io), 14 RF6/AN11/SEG24 (io), 15 RF5/AN10/CVREF/SEG23 (io), 16 RF4/AN9/SEG22 (io), 17 RF3/AN8/SEG21 (io), 18 RF2/AN7/C1OUT/SEG20 (io), 19 RH7/SEG43 (io), 20 RH6/SEG42 (io), 21 RH5/SEG41 (io), 22 RH4/SEG40 (io), 23 RF1/AN6/C2OUT/SEG19 (io), 24 ENVREG (in), 25 AVDD (power), 26 AVSS (power), 27 RA3/AN3/VREF+ (io), 28 RA2/AN2/VREF- (io), 29 RA1/AN1/SEG18 (io), 30 RA0/AN0 (io), 31 VSS (power), 32 VDD (power), 33 RA5/AN4/SEG15 (io), 34 RA4/T0CKI/SEG14 (io), 35 RC1/T1OSI/CCP2I/SEG32 (io), 36 RC0/T1OSO/T13CKI (io), 37 RC6/TX1/CK1/SEG27 (io), 38 RC7/RX1/DT1/SEG28 (io), 39 RJ4/SEG39 (io), 40 RJ5/SEG38 (io), 41 RJ6/SEG37 (io), 42 RJ7/SEG36 (io), 43 RC2/CCP1/SEG13 (io), 44 RC3/SCK/SCL/SEG17 (io), 45 RC4/SDI/SDA/SEG16 (io), 46 RC5/SDO/SEG12 (io), 47 RB7/KBI3/PGD (io), 48 VDD (power), 49 OSC1/CLKI/RA7 (io), 50 OSC2/CLKO/RA6 (io), 51 VSS (power), 52 RB6/KBI2/PGC (io), 53 RB5/KBI1/SEG29 (io), 54 RB4/KBI0/SEG11 (io), 55 RB3/INT3/SEG10 (io), 56 RB2/INT2/SEG9 (io), 57 RB1/INT1/SEG8 (io), 58 RB0/INT0/SEG30 (io), 59 RJ3/SEG35 (io), 60 RJ2/SEG34 (io), 61 RJ1/SEG33 (io), 62 RJ0 (io), 63 RD7/SEG7 (io), 64 RD6/SEG6 (io), 65 RD5/SEG5 (io), 66 RD4/SEG4 (io), 67 RD3/SEG3 (io), 68 RD2/SEG2 (io), 69 RD1/SEG1 (io), 70 VSS (power), 71 VDD (power), 72 RD0/SEG0 (io), 73 RE7/CCP2/SEG31 (io), 74 RE6/COM3 (io), 75 RE5/COM2 (io), 76 RE4/COM1 (io), 77 RE3/COM0 (io), 78 LCDBIAS3 (in), 79 RH0/SEG47 (io), 80 RH1/SEG46 (io)

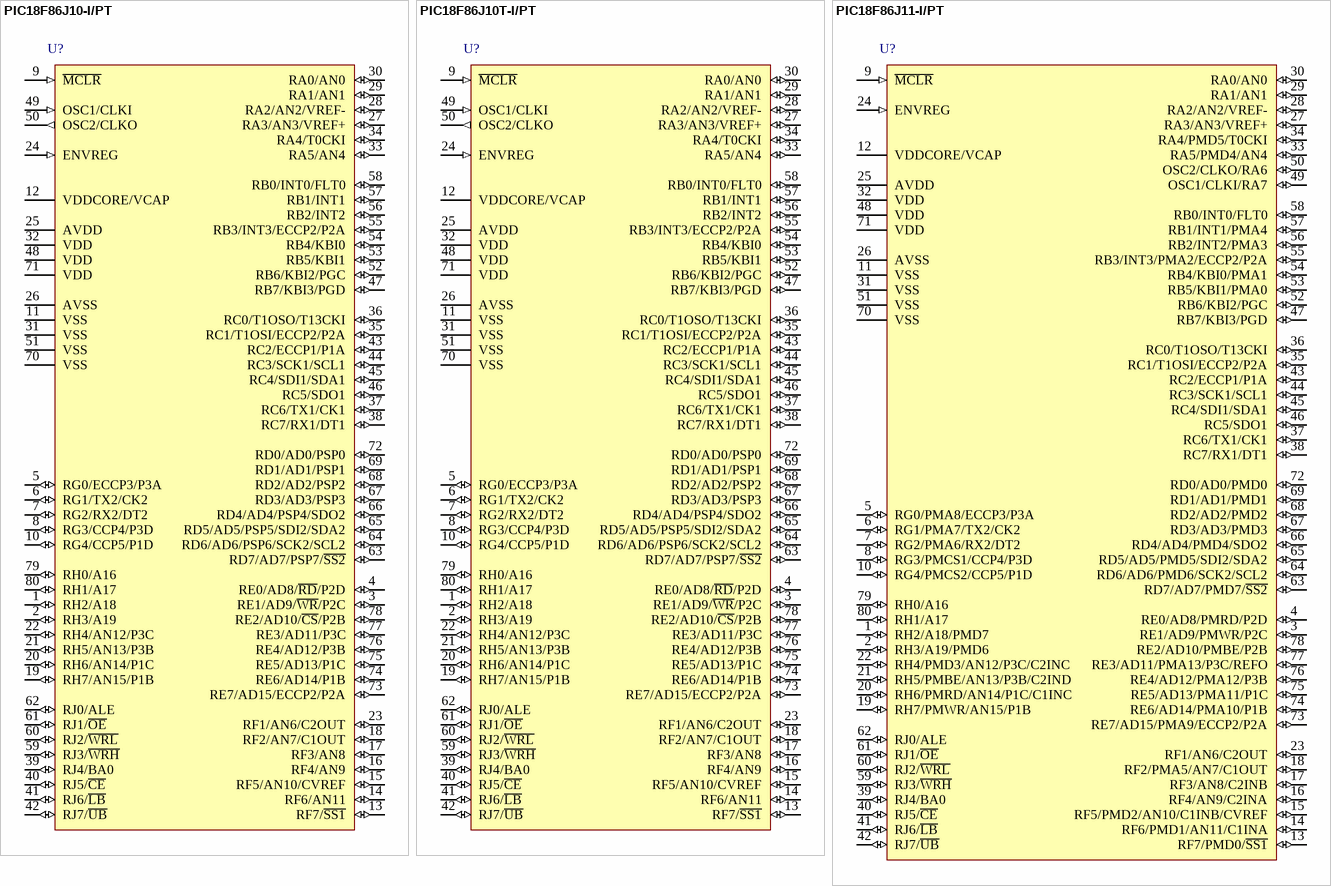
[diagram p18: symbols PIC18F86J10-I/PT to PIC18F86J11-I/PT]

## PIC18F86J10-I/PT
designator U?
High Performance, 1-Mbit Flash Microcontroller with nanoWatt Technology, 64K Flash, 80-Pin TQFP, Industrial Temperature Range; Published: 29-Jan-2009; DatasheetVersion: revD, Jun-2006; PackageVersion: revAW, Oct-2008; PackageReference: TQFP-PT80; Publisher: Altium Limited; PackageDescription: 80-Lead Thin Plastic Quad Flat Pack (PT) - 12x12x1mm Body, 2.00mm [TQFP]; Code_JEDEC: MS-026; ComponentLink1Description: Manufacturer Link; ComponentLink1URL: http://www.microchip.com; ComponentLink2Description: Datasheet; ComponentLink2URL: http://ww1.microchip.com/downloads/en/DeviceDoc/39663d.pdf; ComponentLink3Description: Packaging Specification; ComponentLink3URL: http://ww1.microchip.com/downloads/en/PackagingSpec/00049AW.pdf
footprint TQFP-PT80_N (Thin QFP, 80-Leads, Body 12x12mm, Pitch 0.5mm, IPC Medium Density)
footprint TQFP-PT80_L (Thin QFP, 80-Leads, Body 12x12mm, Pitch 0.5mm, IPC High Density)
footprint TQFP-PT80_M (Thin QFP, 80-Leads, Body 12x12mm, Pitch 0.5mm, IPC Low Density)
pins: 1 RH2/A18 (io), 2 RH3/A19 (io), 3 RE1/AD9/~{WR}/P2C (io), 4 RE0/AD8/~{RD}/P2D (io), 5 RG0/ECCP3/P3A (io), 6 RG1/TX2/CK2 (io), 7 RG2/RX2/DT2 (io), 8 RG3/CCP4/P3D (io), 9 ~{MCLR} (in), 10 RG4/CCP5/P1D (io), 11 VSS (power), 12 VDDCORE/VCAP (power), 13 RF7/~{SS1} (io), 14 RF6/AN11 (io), 15 RF5/AN10/CVREF (io), 16 RF4/AN9 (io), 17 RF3/AN8 (io), 18 RF2/AN7/C1OUT (io), 19 RH7/AN15/P1B (io), 20 RH6/AN14/P1C (io), 21 RH5/AN13/P3B (io), 22 RH4/AN12/P3C (io), 23 RF1/AN6/C2OUT (io), 24 ENVREG (in), 25 AVDD (power), 26 AVSS (power), 27 RA3/AN3/VREF+ (io), 28 RA2/AN2/VREF- (io), 29 RA1/AN1 (io), 30 RA0/AN0 (io), 31 VSS (power), 32 VDD (power), 33 RA5/AN4 (io), 34 RA4/T0CKI (io), 35 RC1/T1OSI/ECCP2/P2A (io), 36 RC0/T1OSO/T13CKI (io), 37 RC6/TX1/CK1 (io), 38 RC7/RX1/DT1 (io), 39 RJ4/BA0 (io), 40 RJ5/~{CE} (io), 41 RJ6/~{LB} (io), 42 RJ7/~{UB} (io), 43 RC2/ECCP1/P1A (io), 44 RC3/SCK1/SCL1 (io), 45 RC4/SDI1/SDA1 (io), 46 RC5/SDO1 (io), 47 RB7/KBI3/PGD (io), 48 VDD (power), 49 OSC1/CLKI (in), 50 OSC2/CLKO (out), 51 VSS (power), 52 RB6/KBI2/PGC (io), 53 RB5/KBI1 (io), 54 RB4/KBI0 (io), 55 RB3/INT3/ECCP2/P2A (io), 56 RB2/INT2 (io), 57 RB1/INT1 (io), 58 RB0/INT0/FLT0 (io), 59 RJ3/~{WRH} (io), 60 RJ2/~{WRL} (io), 61 RJ1/~{OE} (io), 62 RJ0/ALE (io), 63 RD7/AD7/PSP7/~{SS2} (io), 64 RD6/AD6/PSP6/SCK2/SCL2 (io), 65 RD5/AD5/PSP5/SDI2/SDA2 (io), 66 RD4/AD4/PSP4/SDO2 (io), 67 RD3/AD3/PSP3 (io), 68 RD2/AD2/PSP2 (io), 69 RD1/AD1/PSP1 (io), 70 VSS (power), 71 VDD (power), 72 RD0/AD0/PSP0 (io), 73 RE7/AD15/ECCP2/P2A (io), 74 RE6/AD14/P1B (io), 75 RE5/AD13/P1C (io), 76 RE4/AD12/P3B (io), 77 RE3/AD11/P3C (io), 78 RE2/AD10/~{CS}/P2B (io), 79 RH0/A16 (io), 80 RH1/A17 (io)

## PIC18F86J10T-I/PT
designator U?
High Performance, 1-Mbit Flash Microcontroller with nanoWatt Technology, 64K Flash, 80-Pin TQFP, Industrial Temperature Range, Tape and Reel; Published: 29-Jan-2009; DatasheetVersion: revD, Jun-2006; PackageVersion: revAW, Oct-2008; PackageReference: TQFP-PT80; Publisher: Altium Limited; PackageDescription: 80-Lead Thin Plastic Quad Flat Pack (PT) - 12x12x1mm Body, 2.00mm [TQFP]; Code_JEDEC: MS-026; ComponentLink1Description: Manufacturer Link; ComponentLink1URL: http://www.microchip.com; ComponentLink2Description: Datasheet; ComponentLink2URL: http://ww1.microchip.com/downloads/en/DeviceDoc/39663d.pdf; ComponentLink3Description: Packaging Specification; ComponentLink3URL: http://ww1.microchip.com/downloads/en/PackagingSpec/00049AW.pdf
footprint TQFP-PT80_N (Thin QFP, 80-Leads, Body 12x12mm, Pitch 0.5mm, IPC Medium Density)
footprint TQFP-PT80_L (Thin QFP, 80-Leads, Body 12x12mm, Pitch 0.5mm, IPC High Density)
footprint TQFP-PT80_M (Thin QFP, 80-Leads, Body 12x12mm, Pitch 0.5mm, IPC Low Density)
pins: 1 RH2/A18 (io), 2 RH3/A19 (io), 3 RE1/AD9/~{WR}/P2C (io), 4 RE0/AD8/~{RD}/P2D (io), 5 RG0/ECCP3/P3A (io), 6 RG1/TX2/CK2 (io), 7 RG2/RX2/DT2 (io), 8 RG3/CCP4/P3D (io), 9 ~{MCLR} (in), 10 RG4/CCP5/P1D (io), 11 VSS (power), 12 VDDCORE/VCAP (power), 13 RF7/~{SS1} (io), 14 RF6/AN11 (io), 15 RF5/AN10/CVREF (io), 16 RF4/AN9 (io), 17 RF3/AN8 (io), 18 RF2/AN7/C1OUT (io), 19 RH7/AN15/P1B (io), 20 RH6/AN14/P1C (io), 21 RH5/AN13/P3B (io), 22 RH4/AN12/P3C (io), 23 RF1/AN6/C2OUT (io), 24 ENVREG (in), 25 AVDD (power), 26 AVSS (power), 27 RA3/AN3/VREF+ (io), 28 RA2/AN2/VREF- (io), 29 RA1/AN1 (io), 30 RA0/AN0 (io), 31 VSS (power), 32 VDD (power), 33 RA5/AN4 (io), 34 RA4/T0CKI (io), 35 RC1/T1OSI/ECCP2/P2A (io), 36 RC0/T1OSO/T13CKI (io), 37 RC6/TX1/CK1 (io), 38 RC7/RX1/DT1 (io), 39 RJ4/BA0 (io), 40 RJ5/~{CE} (io), 41 RJ6/~{LB} (io), 42 RJ7/~{UB} (io), 43 RC2/ECCP1/P1A (io), 44 RC3/SCK1/SCL1 (io), 45 RC4/SDI1/SDA1 (io), 46 RC5/SDO1 (io), 47 RB7/KBI3/PGD (io), 48 VDD (power), 49 OSC1/CLKI (in), 50 OSC2/CLKO (out), 51 VSS (power), 52 RB6/KBI2/PGC (io), 53 RB5/KBI1 (io), 54 RB4/KBI0 (io), 55 RB3/INT3/ECCP2/P2A (io), 56 RB2/INT2 (io), 57 RB1/INT1 (io), 58 RB0/INT0/FLT0 (io), 59 RJ3/~{WRH} (io), 60 RJ2/~{WRL} (io), 61 RJ1/~{OE} (io), 62 RJ0/ALE (io), 63 RD7/AD7/PSP7/~{SS2} (io), 64 RD6/AD6/PSP6/SCK2/SCL2 (io), 65 RD5/AD5/PSP5/SDI2/SDA2 (io), 66 RD4/AD4/PSP4/SDO2 (io), 67 RD3/AD3/PSP3 (io), 68 RD2/AD2/PSP2 (io), 69 RD1/AD1/PSP1 (io), 70 VSS (power), 71 VDD (power), 72 RD0/AD0/PSP0 (io), 73 RE7/AD15/ECCP2/P2A (io), 74 RE6/AD14/P1B (io), 75 RE5/AD13/P1C (io), 76 RE4/AD12/P3B (io), 77 RE3/AD11/P3C (io), 78 RE2/AD10/~{CS}/P2B (io), 79 RH0/A16 (io), 80 RH1/A17 (io)

## PIC18F86J11-I/PT
designator U?
High Performance, 1-Mbit Flash Microcontroller with nanoWatt Technology, 64K Flash, 80-Pin TQFP, Industrial Temperature Range; Published: 29-Jan-2009; DatasheetVersion: revC, Jan-2008; PackageVersion: revAW, Oct-2008; PackageReference: TQFP-PT80; Publisher: Altium Limited; PackageDescription: 80-Lead Thin Plastic Quad Flat Pack (PT) - 12x12x1mm Body, 2.00mm [TQFP]; Code_JEDEC: MS-026; ComponentLink1Description: Manufacturer Link; ComponentLink1URL: http://www.microchip.com; ComponentLink2Description: Datasheet; ComponentLink2URL: http://ww1.microchip.com/downloads/en/DeviceDoc/39778c.pdf; ComponentLink3Description: Packaging Specification; ComponentLink3URL: http://ww1.microchip.com/downloads/en/PackagingSpec/00049AW.pdf
footprint TQFP-PT80_N (Thin QFP, 80-Leads, Body 12x12mm, Pitch 0.5mm, IPC Medium Density)
footprint TQFP-PT80_L (Thin QFP, 80-Leads, Body 12x12mm, Pitch 0.5mm, IPC High Density)
footprint TQFP-PT80_M (Thin QFP, 80-Leads, Body 12x12mm, Pitch 0.5mm, IPC Low Density)
pins: 1 RH2/A18/PMD7 (io), 2 RH3/A19/PMD6 (io), 3 RE1/AD9/PMWR/P2C (io), 4 RE0/AD8/PMRD/P2D (io), 5 RG0/PMA8/ECCP3/P3A (io), 6 RG1/PMA7/TX2/CK2 (io), 7 RG2/PMA6/RX2/DT2 (io), 8 RG3/PMCS1/CCP4/P3D (io), 9 ~{MCLR} (in), 10 RG4/PMCS2/CCP5/P1D (io), 11 VSS (power), 12 VDDCORE/VCAP (power), 13 RF7/PMD0/~{SS1} (io), 14 RF6/PMD1/AN11/C1INA (io), 15 RF5/PMD2/AN10/C1INB/CVREF (io), 16 RF4/AN9/C2INA (io), 17 RF3/AN8/C2INB (io), 18 RF2/PMA5/AN7/C1OUT (io), 19 RH7/PMWR/AN15/P1B (io), 20 RH6/PMRD/AN14/P1C/C1INC (io), 21 RH5/PMBE/AN13/P3B/C2IND (io), 22 RH4/PMD3/AN12/P3C/C2INC (io), 23 RF1/AN6/C2OUT (io), 24 ENVREG (in), 25 AVDD (power), 26 AVSS (power), 27 RA3/AN3/VREF+ (io), 28 RA2/AN2/VREF- (io), 29 RA1/AN1 (io), 30 RA0/AN0 (io), 31 VSS (power), 32 VDD (power), 33 RA5/PMD4/AN4 (io), 34 RA4/PMD5/T0CKI (io), 35 RC1/T1OSI/ECCP2/P2A (io), 36 RC0/T1OSO/T13CKI (io), 37 RC6/TX1/CK1 (io), 38 RC7/RX1/DT1 (io), 39 RJ4/BA0 (io), 40 RJ5/~{CE} (io), 41 RJ6/~{LB} (io), 42 RJ7/~{UB} (io), 43 RC2/ECCP1/P1A (io), 44 RC3/SCK1/SCL1 (io), 45 RC4/SDI1/SDA1 (io), 46 RC5/SDO1 (io), 47 RB7/KBI3/PGD (io), 48 VDD (power), 49 OSC1/CLKI/RA7 (io), 50 OSC2/CLKO/RA6 (io), 51 VSS (power), 52 RB6/KBI2/PGC (io), 53 RB5/KBI1/PMA0 (io), 54 RB4/KBI0/PMA1 (io), 55 RB3/INT3/PMA2/ECCP2/P2A (io), 56 RB2/INT2/PMA3 (io), 57 RB1/INT1/PMA4 (io), 58 RB0/INT0/FLT0 (io), 59 RJ3/~{WRH} (io), 60 RJ2/~{WRL} (io), 61 RJ1/~{OE} (io), 62 RJ0/ALE (io), 63 RD7/AD7/PMD7/~{SS2} (io), 64 RD6/AD6/PMD6/SCK2/SCL2 (io), 65 RD5/AD5/PMD5/SDI2/SDA2 (io), 66 RD4/AD4/PMD4/SDO2 (io), 67 RD3/AD3/PMD3 (io), 68 RD2/AD2/PMD2 (io), 69 RD1/AD1/PMD1 (io), 70 VSS (power), 71 VDD (power), 72 RD0/AD0/PMD0 (io), 73 RE7/AD15/PMA9/ECCP2/P2A (io), 74 RE6/AD14/PMA10/P1B (io), 75 RE5/AD13/PMA11/P1C (io), 76 RE4/AD12/PMA12/P3B (io), 77 RE3/AD11/PMA13/P3C/REFO (io), 78 RE2/AD10/PMBE/P2B (io), 79 RH0/A16 (io), 80 RH1/A17 (io)

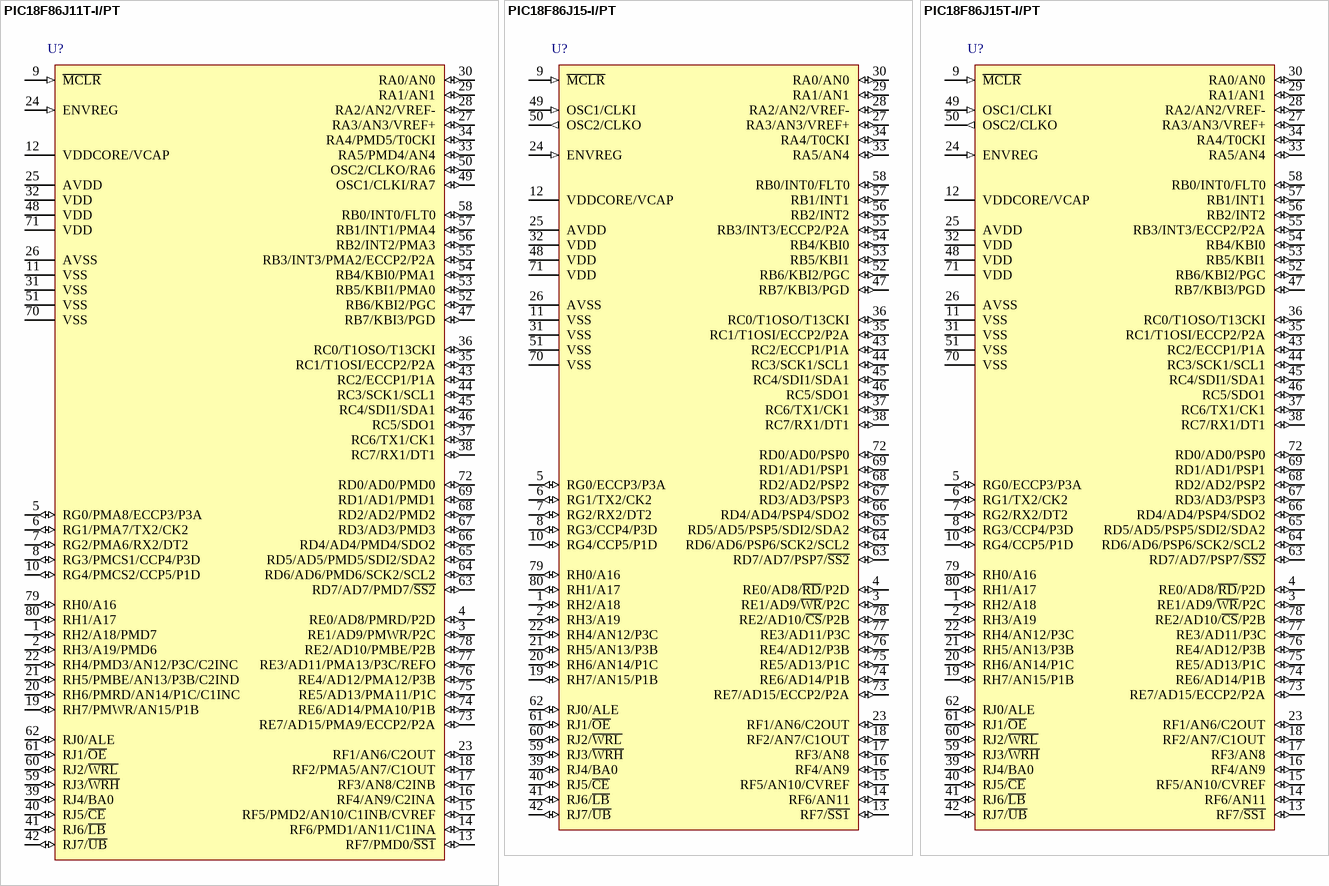
[diagram p19: symbols PIC18F86J11T-I/PT to PIC18F86J15T-I/PT]

## PIC18F86J11T-I/PT
designator U?
High Performance, 1-Mbit Flash Microcontroller with nanoWatt Technology, 64K Flash, 80-Pin TQFP, Industrial Temperature Range, Tape and Reel; Published: 29-Jan-2009; DatasheetVersion: revC, Jan-2008; PackageVersion: revAW, Oct-2008; PackageReference: TQFP-PT80; Publisher: Altium Limited; PackageDescription: 80-Lead Thin Plastic Quad Flat Pack (PT) - 12x12x1mm Body, 2.00mm [TQFP]; Code_JEDEC: MS-026; ComponentLink1Description: Manufacturer Link; ComponentLink1URL: http://www.microchip.com; ComponentLink2Description: Datasheet; ComponentLink2URL: http://ww1.microchip.com/downloads/en/DeviceDoc/39778c.pdf; ComponentLink3Description: Packaging Specification; ComponentLink3URL: http://ww1.microchip.com/downloads/en/PackagingSpec/00049AW.pdf
footprint TQFP-PT80_N (Thin QFP, 80-Leads, Body 12x12mm, Pitch 0.5mm, IPC Medium Density)
footprint TQFP-PT80_L (Thin QFP, 80-Leads, Body 12x12mm, Pitch 0.5mm, IPC High Density)
footprint TQFP-PT80_M (Thin QFP, 80-Leads, Body 12x12mm, Pitch 0.5mm, IPC Low Density)
pins: 1 RH2/A18/PMD7 (io), 2 RH3/A19/PMD6 (io), 3 RE1/AD9/PMWR/P2C (io), 4 RE0/AD8/PMRD/P2D (io), 5 RG0/PMA8/ECCP3/P3A (io), 6 RG1/PMA7/TX2/CK2 (io), 7 RG2/PMA6/RX2/DT2 (io), 8 RG3/PMCS1/CCP4/P3D (io), 9 ~{MCLR} (in), 10 RG4/PMCS2/CCP5/P1D (io), 11 VSS (power), 12 VDDCORE/VCAP (power), 13 RF7/PMD0/~{SS1} (io), 14 RF6/PMD1/AN11/C1INA (io), 15 RF5/PMD2/AN10/C1INB/CVREF (io), 16 RF4/AN9/C2INA (io), 17 RF3/AN8/C2INB (io), 18 RF2/PMA5/AN7/C1OUT (io), 19 RH7/PMWR/AN15/P1B (io), 20 RH6/PMRD/AN14/P1C/C1INC (io), 21 RH5/PMBE/AN13/P3B/C2IND (io), 22 RH4/PMD3/AN12/P3C/C2INC (io), 23 RF1/AN6/C2OUT (io), 24 ENVREG (in), 25 AVDD (power), 26 AVSS (power), 27 RA3/AN3/VREF+ (io), 28 RA2/AN2/VREF- (io), 29 RA1/AN1 (io), 30 RA0/AN0 (io), 31 VSS (power), 32 VDD (power), 33 RA5/PMD4/AN4 (io), 34 RA4/PMD5/T0CKI (io), 35 RC1/T1OSI/ECCP2/P2A (io), 36 RC0/T1OSO/T13CKI (io), 37 RC6/TX1/CK1 (io), 38 RC7/RX1/DT1 (io), 39 RJ4/BA0 (io), 40 RJ5/~{CE} (io), 41 RJ6/~{LB} (io), 42 RJ7/~{UB} (io), 43 RC2/ECCP1/P1A (io), 44 RC3/SCK1/SCL1 (io), 45 RC4/SDI1/SDA1 (io), 46 RC5/SDO1 (io), 47 RB7/KBI3/PGD (io), 48 VDD (power), 49 OSC1/CLKI/RA7 (io), 50 OSC2/CLKO/RA6 (io), 51 VSS (power), 52 RB6/KBI2/PGC (io), 53 RB5/KBI1/PMA0 (io), 54 RB4/KBI0/PMA1 (io), 55 RB3/INT3/PMA2/ECCP2/P2A (io), 56 RB2/INT2/PMA3 (io), 57 RB1/INT1/PMA4 (io), 58 RB0/INT0/FLT0 (io), 59 RJ3/~{WRH} (io), 60 RJ2/~{WRL} (io), 61 RJ1/~{OE} (io), 62 RJ0/ALE (io), 63 RD7/AD7/PMD7/~{SS2} (io), 64 RD6/AD6/PMD6/SCK2/SCL2 (io), 65 RD5/AD5/PMD5/SDI2/SDA2 (io), 66 RD4/AD4/PMD4/SDO2 (io), 67 RD3/AD3/PMD3 (io), 68 RD2/AD2/PMD2 (io), 69 RD1/AD1/PMD1 (io), 70 VSS (power), 71 VDD (power), 72 RD0/AD0/PMD0 (io), 73 RE7/AD15/PMA9/ECCP2/P2A (io), 74 RE6/AD14/PMA10/P1B (io), 75 RE5/AD13/PMA11/P1C (io), 76 RE4/AD12/PMA12/P3B (io), 77 RE3/AD11/PMA13/P3C/REFO (io), 78 RE2/AD10/PMBE/P2B (io), 79 RH0/A16 (io), 80 RH1/A17 (io)

## PIC18F86J15-I/PT
designator U?
High Performance, 1-Mbit Flash Microcontroller with nanoWatt Technology, 96K Flash, 80-Pin TQFP, Industrial Temperature Range; Published: 29-Jan-2009; DatasheetVersion: revD, Jun-2006; PackageVersion: revAW, Oct-2008; PackageReference: TQFP-PT80; Publisher: Altium Limited; PackageDescription: 80-Lead Thin Plastic Quad Flat Pack (PT) - 12x12x1mm Body, 2.00mm [TQFP]; Code_JEDEC: MS-026; ComponentLink1Description: Manufacturer Link; ComponentLink1URL: http://www.microchip.com; ComponentLink2Description: Datasheet; ComponentLink2URL: http://ww1.microchip.com/downloads/en/DeviceDoc/39663d.pdf; ComponentLink3Description: Packaging Specification; ComponentLink3URL: http://ww1.microchip.com/downloads/en/PackagingSpec/00049AW.pdf
footprint TQFP-PT80_N (Thin QFP, 80-Leads, Body 12x12mm, Pitch 0.5mm, IPC Medium Density)
footprint TQFP-PT80_L (Thin QFP, 80-Leads, Body 12x12mm, Pitch 0.5mm, IPC High Density)
footprint TQFP-PT80_M (Thin QFP, 80-Leads, Body 12x12mm, Pitch 0.5mm, IPC Low Density)
pins: 1 RH2/A18 (io), 2 RH3/A19 (io), 3 RE1/AD9/~{WR}/P2C (io), 4 RE0/AD8/~{RD}/P2D (io), 5 RG0/ECCP3/P3A (io), 6 RG1/TX2/CK2 (io), 7 RG2/RX2/DT2 (io), 8 RG3/CCP4/P3D (io), 9 ~{MCLR} (in), 10 RG4/CCP5/P1D (io), 11 VSS (power), 12 VDDCORE/VCAP (power), 13 RF7/~{SS1} (io), 14 RF6/AN11 (io), 15 RF5/AN10/CVREF (io), 16 RF4/AN9 (io), 17 RF3/AN8 (io), 18 RF2/AN7/C1OUT (io), 19 RH7/AN15/P1B (io), 20 RH6/AN14/P1C (io), 21 RH5/AN13/P3B (io), 22 RH4/AN12/P3C (io), 23 RF1/AN6/C2OUT (io), 24 ENVREG (in), 25 AVDD (power), 26 AVSS (power), 27 RA3/AN3/VREF+ (io), 28 RA2/AN2/VREF- (io), 29 RA1/AN1 (io), 30 RA0/AN0 (io), 31 VSS (power), 32 VDD (power), 33 RA5/AN4 (io), 34 RA4/T0CKI (io), 35 RC1/T1OSI/ECCP2/P2A (io), 36 RC0/T1OSO/T13CKI (io), 37 RC6/TX1/CK1 (io), 38 RC7/RX1/DT1 (io), 39 RJ4/BA0 (io), 40 RJ5/~{CE} (io), 41 RJ6/~{LB} (io), 42 RJ7/~{UB} (io), 43 RC2/ECCP1/P1A (io), 44 RC3/SCK1/SCL1 (io), 45 RC4/SDI1/SDA1 (io), 46 RC5/SDO1 (io), 47 RB7/KBI3/PGD (io), 48 VDD (power), 49 OSC1/CLKI (in), 50 OSC2/CLKO (out), 51 VSS (power), 52 RB6/KBI2/PGC (io), 53 RB5/KBI1 (io), 54 RB4/KBI0 (io), 55 RB3/INT3/ECCP2/P2A (io), 56 RB2/INT2 (io), 57 RB1/INT1 (io), 58 RB0/INT0/FLT0 (io), 59 RJ3/~{WRH} (io), 60 RJ2/~{WRL} (io), 61 RJ1/~{OE} (io), 62 RJ0/ALE (io), 63 RD7/AD7/PSP7/~{SS2} (io), 64 RD6/AD6/PSP6/SCK2/SCL2 (io), 65 RD5/AD5/PSP5/SDI2/SDA2 (io), 66 RD4/AD4/PSP4/SDO2 (io), 67 RD3/AD3/PSP3 (io), 68 RD2/AD2/PSP2 (io), 69 RD1/AD1/PSP1 (io), 70 VSS (power), 71 VDD (power), 72 RD0/AD0/PSP0 (io), 73 RE7/AD15/ECCP2/P2A (io), 74 RE6/AD14/P1B (io), 75 RE5/AD13/P1C (io), 76 RE4/AD12/P3B (io), 77 RE3/AD11/P3C (io), 78 RE2/AD10/~{CS}/P2B (io), 79 RH0/A16 (io), 80 RH1/A17 (io)

## PIC18F86J15T-I/PT
designator U?
High Performance, 1-Mbit Flash Microcontroller with nanoWatt Technology, 96K Flash, 80-Pin TQFP, Industrial Temperature Range, Tape and Reel; Published: 29-Jan-2009; DatasheetVersion: revD, Jun-2006; PackageVersion: revAW, Oct-2008; PackageReference: TQFP-PT80; Publisher: Altium Limited; PackageDescription: 80-Lead Thin Plastic Quad Flat Pack (PT) - 12x12x1mm Body, 2.00mm [TQFP]; Code_JEDEC: MS-026; ComponentLink1Description: Manufacturer Link; ComponentLink1URL: http://www.microchip.com; ComponentLink2Description: Datasheet; ComponentLink2URL: http://ww1.microchip.com/downloads/en/DeviceDoc/39663d.pdf; ComponentLink3Description: Packaging Specification; ComponentLink3URL: http://ww1.microchip.com/downloads/en/PackagingSpec/00049AW.pdf
footprint TQFP-PT80_N (Thin QFP, 80-Leads, Body 12x12mm, Pitch 0.5mm, IPC Medium Density)
footprint TQFP-PT80_L (Thin QFP, 80-Leads, Body 12x12mm, Pitch 0.5mm, IPC High Density)
footprint TQFP-PT80_M (Thin QFP, 80-Leads, Body 12x12mm, Pitch 0.5mm, IPC Low Density)
pins: 1 RH2/A18 (io), 2 RH3/A19 (io), 3 RE1/AD9/~{WR}/P2C (io), 4 RE0/AD8/~{RD}/P2D (io), 5 RG0/ECCP3/P3A (io), 6 RG1/TX2/CK2 (io), 7 RG2/RX2/DT2 (io), 8 RG3/CCP4/P3D (io), 9 ~{MCLR} (in), 10 RG4/CCP5/P1D (io), 11 VSS (power), 12 VDDCORE/VCAP (power), 13 RF7/~{SS1} (io), 14 RF6/AN11 (io), 15 RF5/AN10/CVREF (io), 16 RF4/AN9 (io), 17 RF3/AN8 (io), 18 RF2/AN7/C1OUT (io), 19 RH7/AN15/P1B (io), 20 RH6/AN14/P1C (io), 21 RH5/AN13/P3B (io), 22 RH4/AN12/P3C (io), 23 RF1/AN6/C2OUT (io), 24 ENVREG (in), 25 AVDD (power), 26 AVSS (power), 27 RA3/AN3/VREF+ (io), 28 RA2/AN2/VREF- (io), 29 RA1/AN1 (io), 30 RA0/AN0 (io), 31 VSS (power), 32 VDD (power), 33 RA5/AN4 (io), 34 RA4/T0CKI (io), 35 RC1/T1OSI/ECCP2/P2A (io), 36 RC0/T1OSO/T13CKI (io), 37 RC6/TX1/CK1 (io), 38 RC7/RX1/DT1 (io), 39 RJ4/BA0 (io), 40 RJ5/~{CE} (io), 41 RJ6/~{LB} (io), 42 RJ7/~{UB} (io), 43 RC2/ECCP1/P1A (io), 44 RC3/SCK1/SCL1 (io), 45 RC4/SDI1/SDA1 (io), 46 RC5/SDO1 (io), 47 RB7/KBI3/PGD (io), 48 VDD (power), 49 OSC1/CLKI (in), 50 OSC2/CLKO (out), 51 VSS (power), 52 RB6/KBI2/PGC (io), 53 RB5/KBI1 (io), 54 RB4/KBI0 (io), 55 RB3/INT3/ECCP2/P2A (io), 56 RB2/INT2 (io), 57 RB1/INT1 (io), 58 RB0/INT0/FLT0 (io), 59 RJ3/~{WRH} (io), 60 RJ2/~{WRL} (io), 61 RJ1/~{OE} (io), 62 RJ0/ALE (io), 63 RD7/AD7/PSP7/~{SS2} (io), 64 RD6/AD6/PSP6/SCK2/SCL2 (io), 65 RD5/AD5/PSP5/SDI2/SDA2 (io), 66 RD4/AD4/PSP4/SDO2 (io), 67 RD3/AD3/PSP3 (io), 68 RD2/AD2/PSP2 (io), 69 RD1/AD1/PSP1 (io), 70 VSS (power), 71 VDD (power), 72 RD0/AD0/PSP0 (io), 73 RE7/AD15/ECCP2/P2A (io), 74 RE6/AD14/P1B (io), 75 RE5/AD13/P1C (io), 76 RE4/AD12/P3B (io), 77 RE3/AD11/P3C (io), 78 RE2/AD10/~{CS}/P2B (io), 79 RH0/A16 (io), 80 RH1/A17 (io)

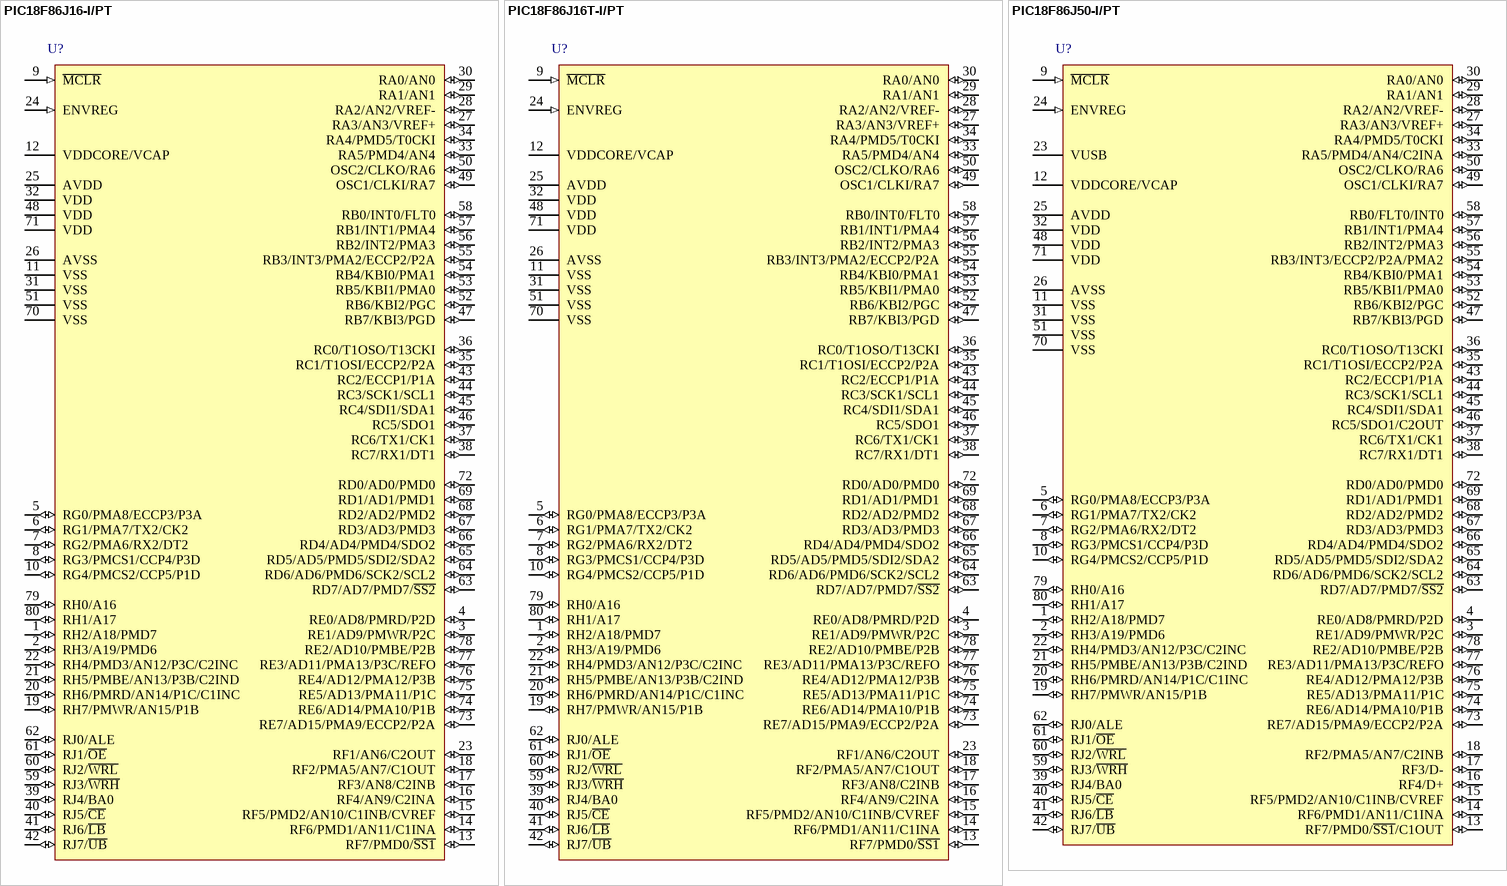
[diagram p20: symbols PIC18F86J16-I/PT to PIC18F86J50-I/PT]

## PIC18F86J16-I/PT
designator U?
High Performance, 1-Mbit Flash Microcontroller with nanoWatt Technology, 96K Flash, 80-Pin TQFP, Industrial Temperature Range; Published: 29-Jan-2009; DatasheetVersion: revC, Jan-2008; PackageVersion: revAW, Oct-2008; PackageReference: TQFP-PT80; Publisher: Altium Limited; PackageDescription: 80-Lead Thin Plastic Quad Flat Pack (PT) - 12x12x1mm Body, 2.00mm [TQFP]; Code_JEDEC: MS-026; ComponentLink1Description: Manufacturer Link; ComponentLink1URL: http://www.microchip.com; ComponentLink2Description: Datasheet; ComponentLink2URL: http://ww1.microchip.com/downloads/en/DeviceDoc/39778c.pdf; ComponentLink3Description: Packaging Specification; ComponentLink3URL: http://ww1.microchip.com/downloads/en/PackagingSpec/00049AW.pdf
footprint TQFP-PT80_N (Thin QFP, 80-Leads, Body 12x12mm, Pitch 0.5mm, IPC Medium Density)
footprint TQFP-PT80_L (Thin QFP, 80-Leads, Body 12x12mm, Pitch 0.5mm, IPC High Density)
footprint TQFP-PT80_M (Thin QFP, 80-Leads, Body 12x12mm, Pitch 0.5mm, IPC Low Density)
pins: 1 RH2/A18/PMD7 (io), 2 RH3/A19/PMD6 (io), 3 RE1/AD9/PMWR/P2C (io), 4 RE0/AD8/PMRD/P2D (io), 5 RG0/PMA8/ECCP3/P3A (io), 6 RG1/PMA7/TX2/CK2 (io), 7 RG2/PMA6/RX2/DT2 (io), 8 RG3/PMCS1/CCP4/P3D (io), 9 ~{MCLR} (in), 10 RG4/PMCS2/CCP5/P1D (io), 11 VSS (power), 12 VDDCORE/VCAP (power), 13 RF7/PMD0/~{SS1} (io), 14 RF6/PMD1/AN11/C1INA (io), 15 RF5/PMD2/AN10/C1INB/CVREF (io), 16 RF4/AN9/C2INA (io), 17 RF3/AN8/C2INB (io), 18 RF2/PMA5/AN7/C1OUT (io), 19 RH7/PMWR/AN15/P1B (io), 20 RH6/PMRD/AN14/P1C/C1INC (io), 21 RH5/PMBE/AN13/P3B/C2IND (io), 22 RH4/PMD3/AN12/P3C/C2INC (io), 23 RF1/AN6/C2OUT (io), 24 ENVREG (in), 25 AVDD (power), 26 AVSS (power), 27 RA3/AN3/VREF+ (io), 28 RA2/AN2/VREF- (io), 29 RA1/AN1 (io), 30 RA0/AN0 (io), 31 VSS (power), 32 VDD (power), 33 RA5/PMD4/AN4 (io), 34 RA4/PMD5/T0CKI (io), 35 RC1/T1OSI/ECCP2/P2A (io), 36 RC0/T1OSO/T13CKI (io), 37 RC6/TX1/CK1 (io), 38 RC7/RX1/DT1 (io), 39 RJ4/BA0 (io), 40 RJ5/~{CE} (io), 41 RJ6/~{LB} (io), 42 RJ7/~{UB} (io), 43 RC2/ECCP1/P1A (io), 44 RC3/SCK1/SCL1 (io), 45 RC4/SDI1/SDA1 (io), 46 RC5/SDO1 (io), 47 RB7/KBI3/PGD (io), 48 VDD (power), 49 OSC1/CLKI/RA7 (io), 50 OSC2/CLKO/RA6 (io), 51 VSS (power), 52 RB6/KBI2/PGC (io), 53 RB5/KBI1/PMA0 (io), 54 RB4/KBI0/PMA1 (io), 55 RB3/INT3/PMA2/ECCP2/P2A (io), 56 RB2/INT2/PMA3 (io), 57 RB1/INT1/PMA4 (io), 58 RB0/INT0/FLT0 (io), 59 RJ3/~{WRH} (io), 60 RJ2/~{WRL} (io), 61 RJ1/~{OE} (io), 62 RJ0/ALE (io), 63 RD7/AD7/PMD7/~{SS2} (io), 64 RD6/AD6/PMD6/SCK2/SCL2 (io), 65 RD5/AD5/PMD5/SDI2/SDA2 (io), 66 RD4/AD4/PMD4/SDO2 (io), 67 RD3/AD3/PMD3 (io), 68 RD2/AD2/PMD2 (io), 69 RD1/AD1/PMD1 (io), 70 VSS (power), 71 VDD (power), 72 RD0/AD0/PMD0 (io), 73 RE7/AD15/PMA9/ECCP2/P2A (io), 74 RE6/AD14/PMA10/P1B (io), 75 RE5/AD13/PMA11/P1C (io), 76 RE4/AD12/PMA12/P3B (io), 77 RE3/AD11/PMA13/P3C/REFO (io), 78 RE2/AD10/PMBE/P2B (io), 79 RH0/A16 (io), 80 RH1/A17 (io)

## PIC18F86J16T-I/PT
designator U?
High Performance, 1-Mbit Flash Microcontroller with nanoWatt Technology, 96K Flash, 80-Pin TQFP, Industrial Temperature Range, Tape and Reel; Published: 29-Jan-2009; DatasheetVersion: revC, Jan-2008; PackageVersion: revAW, Oct-2008; PackageReference: TQFP-PT80; Publisher: Altium Limited; PackageDescription: 80-Lead Thin Plastic Quad Flat Pack (PT) - 12x12x1mm Body, 2.00mm [TQFP]; Code_JEDEC: MS-026; ComponentLink1Description: Manufacturer Link; ComponentLink1URL: http://www.microchip.com; ComponentLink2Description: Datasheet; ComponentLink2URL: http://ww1.microchip.com/downloads/en/DeviceDoc/39778c.pdf; ComponentLink3Description: Packaging Specification; ComponentLink3URL: http://ww1.microchip.com/downloads/en/PackagingSpec/00049AW.pdf
footprint TQFP-PT80_N (Thin QFP, 80-Leads, Body 12x12mm, Pitch 0.5mm, IPC Medium Density)
footprint TQFP-PT80_L (Thin QFP, 80-Leads, Body 12x12mm, Pitch 0.5mm, IPC High Density)
footprint TQFP-PT80_M (Thin QFP, 80-Leads, Body 12x12mm, Pitch 0.5mm, IPC Low Density)
pins: 1 RH2/A18/PMD7 (io), 2 RH3/A19/PMD6 (io), 3 RE1/AD9/PMWR/P2C (io), 4 RE0/AD8/PMRD/P2D (io), 5 RG0/PMA8/ECCP3/P3A (io), 6 RG1/PMA7/TX2/CK2 (io), 7 RG2/PMA6/RX2/DT2 (io), 8 RG3/PMCS1/CCP4/P3D (io), 9 ~{MCLR} (in), 10 RG4/PMCS2/CCP5/P1D (io), 11 VSS (power), 12 VDDCORE/VCAP (power), 13 RF7/PMD0/~{SS1} (io), 14 RF6/PMD1/AN11/C1INA (io), 15 RF5/PMD2/AN10/C1INB/CVREF (io), 16 RF4/AN9/C2INA (io), 17 RF3/AN8/C2INB (io), 18 RF2/PMA5/AN7/C1OUT (io), 19 RH7/PMWR/AN15/P1B (io), 20 RH6/PMRD/AN14/P1C/C1INC (io), 21 RH5/PMBE/AN13/P3B/C2IND (io), 22 RH4/PMD3/AN12/P3C/C2INC (io), 23 RF1/AN6/C2OUT (io), 24 ENVREG (in), 25 AVDD (power), 26 AVSS (power), 27 RA3/AN3/VREF+ (io), 28 RA2/AN2/VREF- (io), 29 RA1/AN1 (io), 30 RA0/AN0 (io), 31 VSS (power), 32 VDD (power), 33 RA5/PMD4/AN4 (io), 34 RA4/PMD5/T0CKI (io), 35 RC1/T1OSI/ECCP2/P2A (io), 36 RC0/T1OSO/T13CKI (io), 37 RC6/TX1/CK1 (io), 38 RC7/RX1/DT1 (io), 39 RJ4/BA0 (io), 40 RJ5/~{CE} (io), 41 RJ6/~{LB} (io), 42 RJ7/~{UB} (io), 43 RC2/ECCP1/P1A (io), 44 RC3/SCK1/SCL1 (io), 45 RC4/SDI1/SDA1 (io), 46 RC5/SDO1 (io), 47 RB7/KBI3/PGD (io), 48 VDD (power), 49 OSC1/CLKI/RA7 (io), 50 OSC2/CLKO/RA6 (io), 51 VSS (power), 52 RB6/KBI2/PGC (io), 53 RB5/KBI1/PMA0 (io), 54 RB4/KBI0/PMA1 (io), 55 RB3/INT3/PMA2/ECCP2/P2A (io), 56 RB2/INT2/PMA3 (io), 57 RB1/INT1/PMA4 (io), 58 RB0/INT0/FLT0 (io), 59 RJ3/~{WRH} (io), 60 RJ2/~{WRL} (io), 61 RJ1/~{OE} (io), 62 RJ0/ALE (io), 63 RD7/AD7/PMD7/~{SS2} (io), 64 RD6/AD6/PMD6/SCK2/SCL2 (io), 65 RD5/AD5/PMD5/SDI2/SDA2 (io), 66 RD4/AD4/PMD4/SDO2 (io), 67 RD3/AD3/PMD3 (io), 68 RD2/AD2/PMD2 (io), 69 RD1/AD1/PMD1 (io), 70 VSS (power), 71 VDD (power), 72 RD0/AD0/PMD0 (io), 73 RE7/AD15/PMA9/ECCP2/P2A (io), 74 RE6/AD14/PMA10/P1B (io), 75 RE5/AD13/PMA11/P1C (io), 76 RE4/AD12/PMA12/P3B (io), 77 RE3/AD11/PMA13/P3C/REFO (io), 78 RE2/AD10/PMBE/P2B (io), 79 RH0/A16 (io), 80 RH1/A17 (io)